# Altium schematic symbol library LED_RGB.SchLib: 1 symbol
Pins are listed as number, name and electrical type; pins without a type are passive.

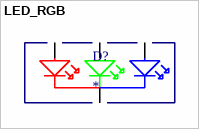
[diagram p0: symbol LED_RGB]

## LED_RGB
designator D?
pins: 1 A, 2 A, 3 C, 4 A